# Altium schematic symbol library CRHT-D000027.SchLib: 21 symbols
Pins are listed as number, name and electrical type; pins without a type are passive.

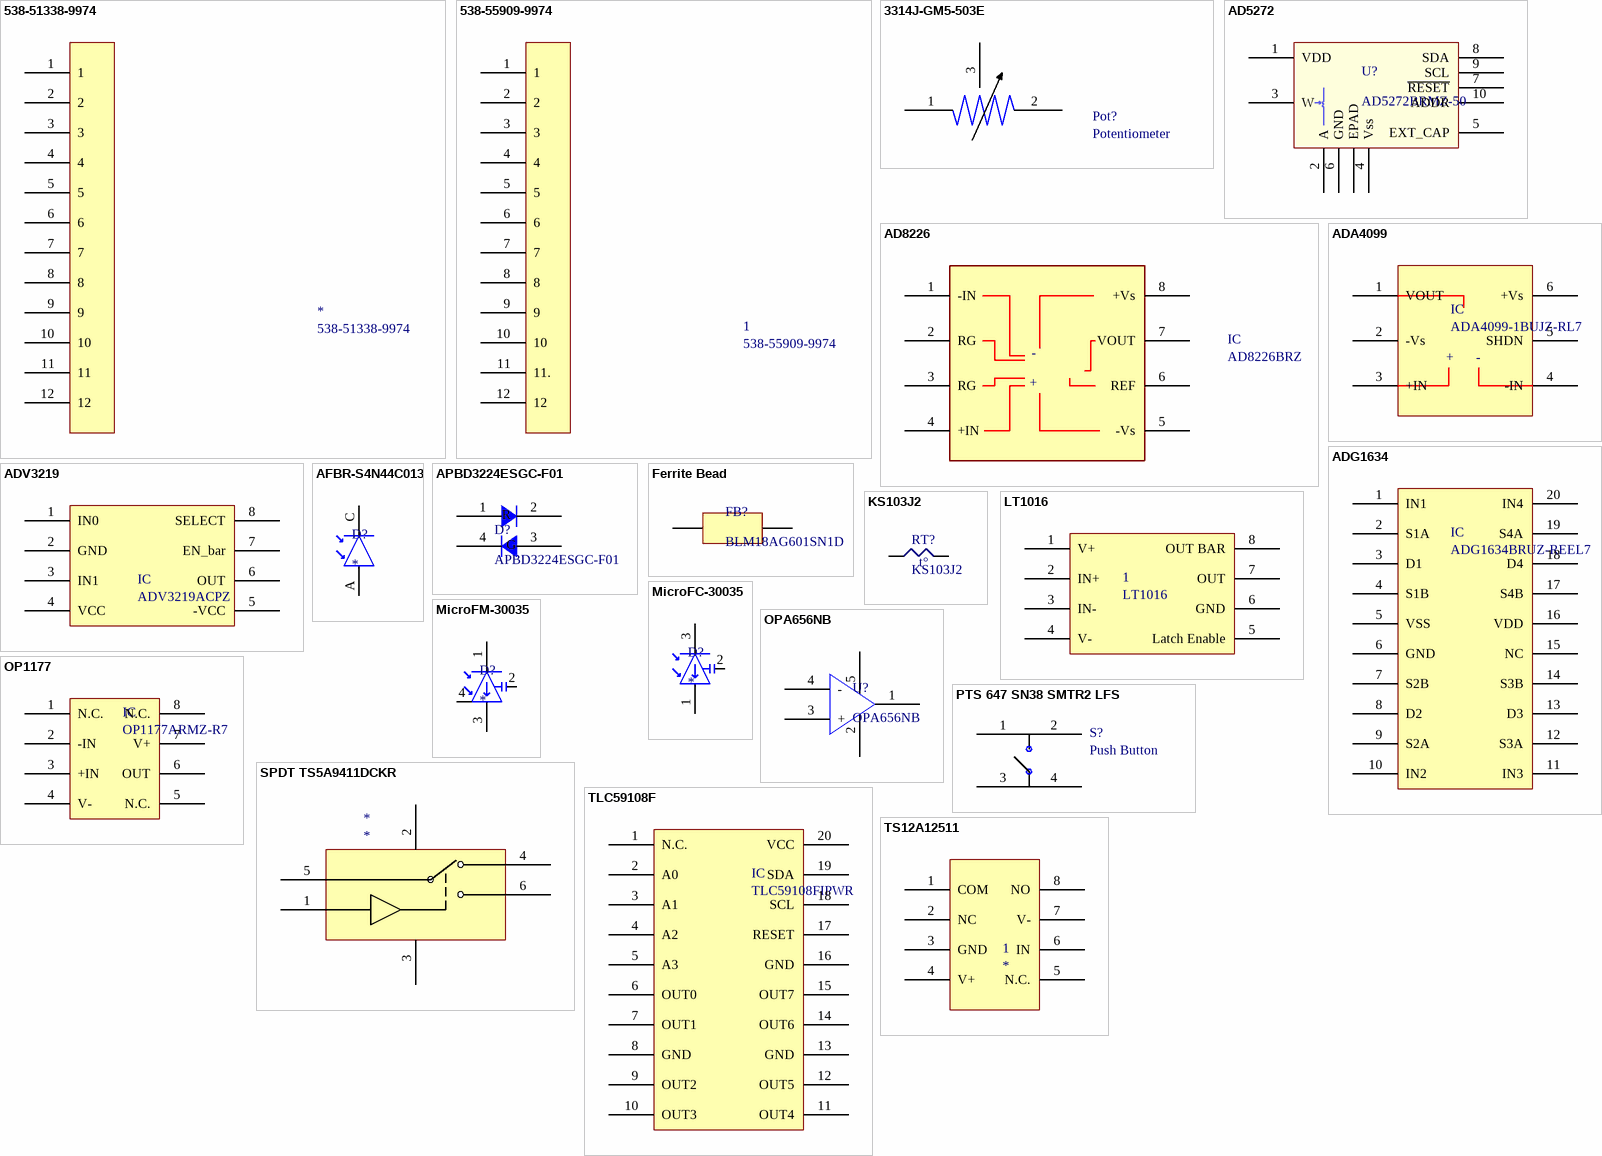
[diagram p0: symbols 538-51338-9974 to TS12A12511]

## 538-51338-9974
designator *
Port
footprint 51338-9974
pins: 1, 2, 3, 4, 5, 6, 7, 8, 9, 10, 11, 12

## 538-55909-9974
designator 1
Port
footprint 55909-9974
pins: 1, 2, 3, 4, 5, 6, 7, 8, 9, 10, 11 11., 12

## 3314J-GM5-503E
designator Pot?, comment Potentiometer
footprint PCBC3314J-GM5-503E (Potentiameter)
pins: 1, 2, 3

## AD5272
designator U?, comment AD5272BRMZ-50
Digital Potentiometer ICs 1024tap 5v 50tp, 1% R-tol MSOP 12C I.C.
footprint MSOP-10
pins: 1 VDD, 2 A, 3 W, 4 Vss, 5 EXT_CAP, 6 GND, 7 ~{RESET}, 8 SDA, 9 SCL, 10 ADDR, 11 EPAD

## AD8226
designator IC, comment AD8226BRZ
Instrumentational Amplifier
footprint AD8226 (AD8226-BRZR8)
pins: 1 -IN, 2 RG, 3 RG, 4 +IN, 5 -Vs, 6 REF, 7 VOUT, 8 +Vs
text: -; +

## ADA4099
designator IC, comment ADA4099-1BUJZ-RL7
Operational Amplifier
footprint ADA4099
pins: 1 VOUT, 2 -Vs, 3 +IN, 4 -IN, 5 SHDN, 6 +Vs
text: +; -

## ADG1634
designator IC, comment ADG1634BRUZ-REEL7
Analog Demultiplexer
pins: 1 IN1, 2 S1A, 3 D1, 4 S1B, 5 VSS, 6 GND, 7 S2B, 8 D2, 9 S2A, 10 IN2, 11 IN3, 12 S3A, 13 D3, 14 S3B, 15 NC, 16 VDD, 17 S4B, 18 D4, 19 S4A, 20 IN4

## ADV3219
designator IC, comment ADV3219ACPZ
Analog Multiplexer
footprint ADV3219/ADV3220
pins: 1 IN0, 2 GND, 3 IN1, 4 VCC, 5 -VCC, 6 OUT, 7 EN_bar, 8 SELECT

## AFBR-S4N44C013
designator D?
footprint BGA16x4
pins: A, C

## APBD3224ESGC-F01
designator D?
footprint 3.2 x 2.4 mm SMD (Footprint not found)
pins: 1 R, 2 SHIELD, 3 SHIELD, 4 SHIELD
text: G

## Ferrite Bead
designator FB?, comment BLM18AG601SN1D
pins: 1, 2

## KS103J2
designator RT?
pins: 1, 2
text: t°

## LT1016
designator 1
Analog Comparator
footprint LT1016
pins: 1 V+, 2 IN+, 3 IN-, 4 V-, 5 Latch Enable, 6 GND, 7 OUT, 8 OUT BAR

## MicroFC-30035
designator D?
footprint MicroFC-30035-SMT
pins: 1, 2, 3

## MicroFM-30035
designator D?
footprint MicroFC-30035-SMT
pins: 1, 2, 3, 4 GND

## OP1177
designator IC, comment OP1177ARMZ-R7
Operational Amplifier
pins: 1 N.C., 2 -IN, 3 +IN, 4 V-, 5 N.C., 6 OUT, 7 V+, 8 N.C.

## OPA656NB
designator U?
footprint SOT23-5 (SOT23, 6-Leads, Body 2.9x1.6mm, Pitch 0.95mm, Lead Span 2.7mm, IPC Medium Density)
pins: 1, 2 -Vs (power), 3 +, 4 -, 5 +Vs (power)

## PTS 647 SN38 SMTR2 LFS
designator S?, comment Push Button
Switch
footprint PTS 647 SN38 SMTR2 LFS (SMT Switch)
pins: 1, 2, 3, 4

## SPDT TS5A9411DCKR
designator *
footprint SPDT TS5A9411 (SPDT Multiplexer)
pins: 1, 2, 3, 4, 5, 6

## TLC59108F
designator IC, comment TLC59108FIPWR
footprint TLC59108FIPWR
pins: 1 N.C., 2 A0, 3 A1, 4 A2, 5 A3, 6 OUT0, 7 OUT1, 8 GND, 9 OUT2, 10 OUT3, 11 OUT4, 12 OUT5, 13 GND, 14 OUT6, 15 OUT7, 16 GND, 17 RESET, 18 SCL, 19 SDA, 20 VCC

## TS12A12511
designator 1
footprint TS12A12511
pins: 1 COM, 2 NC, 3 GND, 4 V+, 5 N.C., 6 IN, 7 V-, 8 NO